# EAGLE library part 114993390_WIO-SX1262 (library UNIT_Biblioteca_Modulos)
114993390 WIO-SX1262 SKU: TST1050 Propietario: UNIT Electronics Desarrollador: Gerardo Ruvalcaba
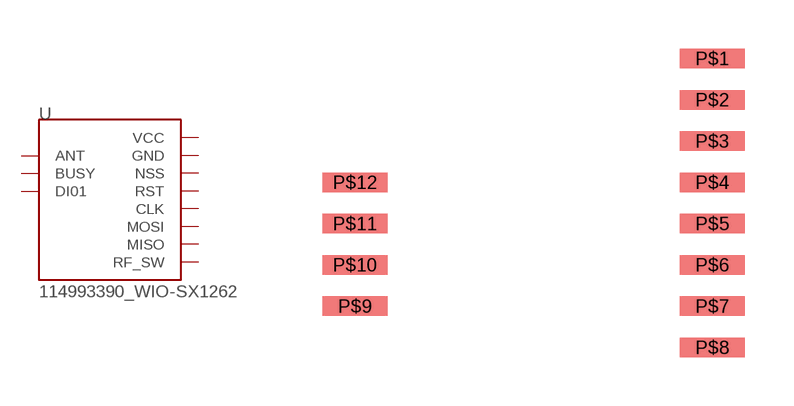
[diagram p36: symbol with the pads of WIO-SX1262; footprint WIO-SX1262]

Designator prefix U

## 114993390_WIO-SX1262. (CLASS: Module - LoRa Transceiver; DATASHEET2: https://semtech.my.salesforce.com/sfc/p/#E0000000JelG/a/RQ000008nKCH/hp2iKwMDKWl34g1D3LBf_zC7TGBRIo2ff5LMnS8r19s; DESCRIPTION: SX1262 chip LoRa & LoRaWAN 868 to 915 MHz; MANUFACTURER_NAME: Seeed Studio; MANUFACTURER_PART_NUMBER: 114993390 / Wio-SX1262; SKU: TST1050; VENDOR_PART_NUMBER: 1597-114993390CT-ND; VENDOR_PRICE-STOCK: https://www.digikey.com/es/products/detail/seeed-technology-co-ltd/114993390/25835823)  [WIO-SX1262]
P$1  VCC
P$2  GND
P$3  NSS
P$4  RST
P$5  CLK
P$6  MOSI
P$7  MISO
P$8  RF_SW
P$9  DI01
P$10  BUSY
P$11  GND
P$12  ANT

## Footprint WIO-SX1262 (pad centres in mm)
smd 2 x 0.6: P$1 5.5,4.445; P$2 5.5,3.175; P$3 5.5,1.905; P$4 5.5,0.635; P$5 5.5,-0.635; P$6 5.5,-1.905; P$7 5.5,-3.175; P$8 5.5,-4.445; P$9 -5.5,-3.175; P$10 -5.5,-1.905; P$11 -5.5,-0.635; P$12 -5.5,0.635